# Altium integrated library Linear Technology Power Management System Supervisor, Monitor and Control.IntLib: 1611 symbols (part 96 of 100)
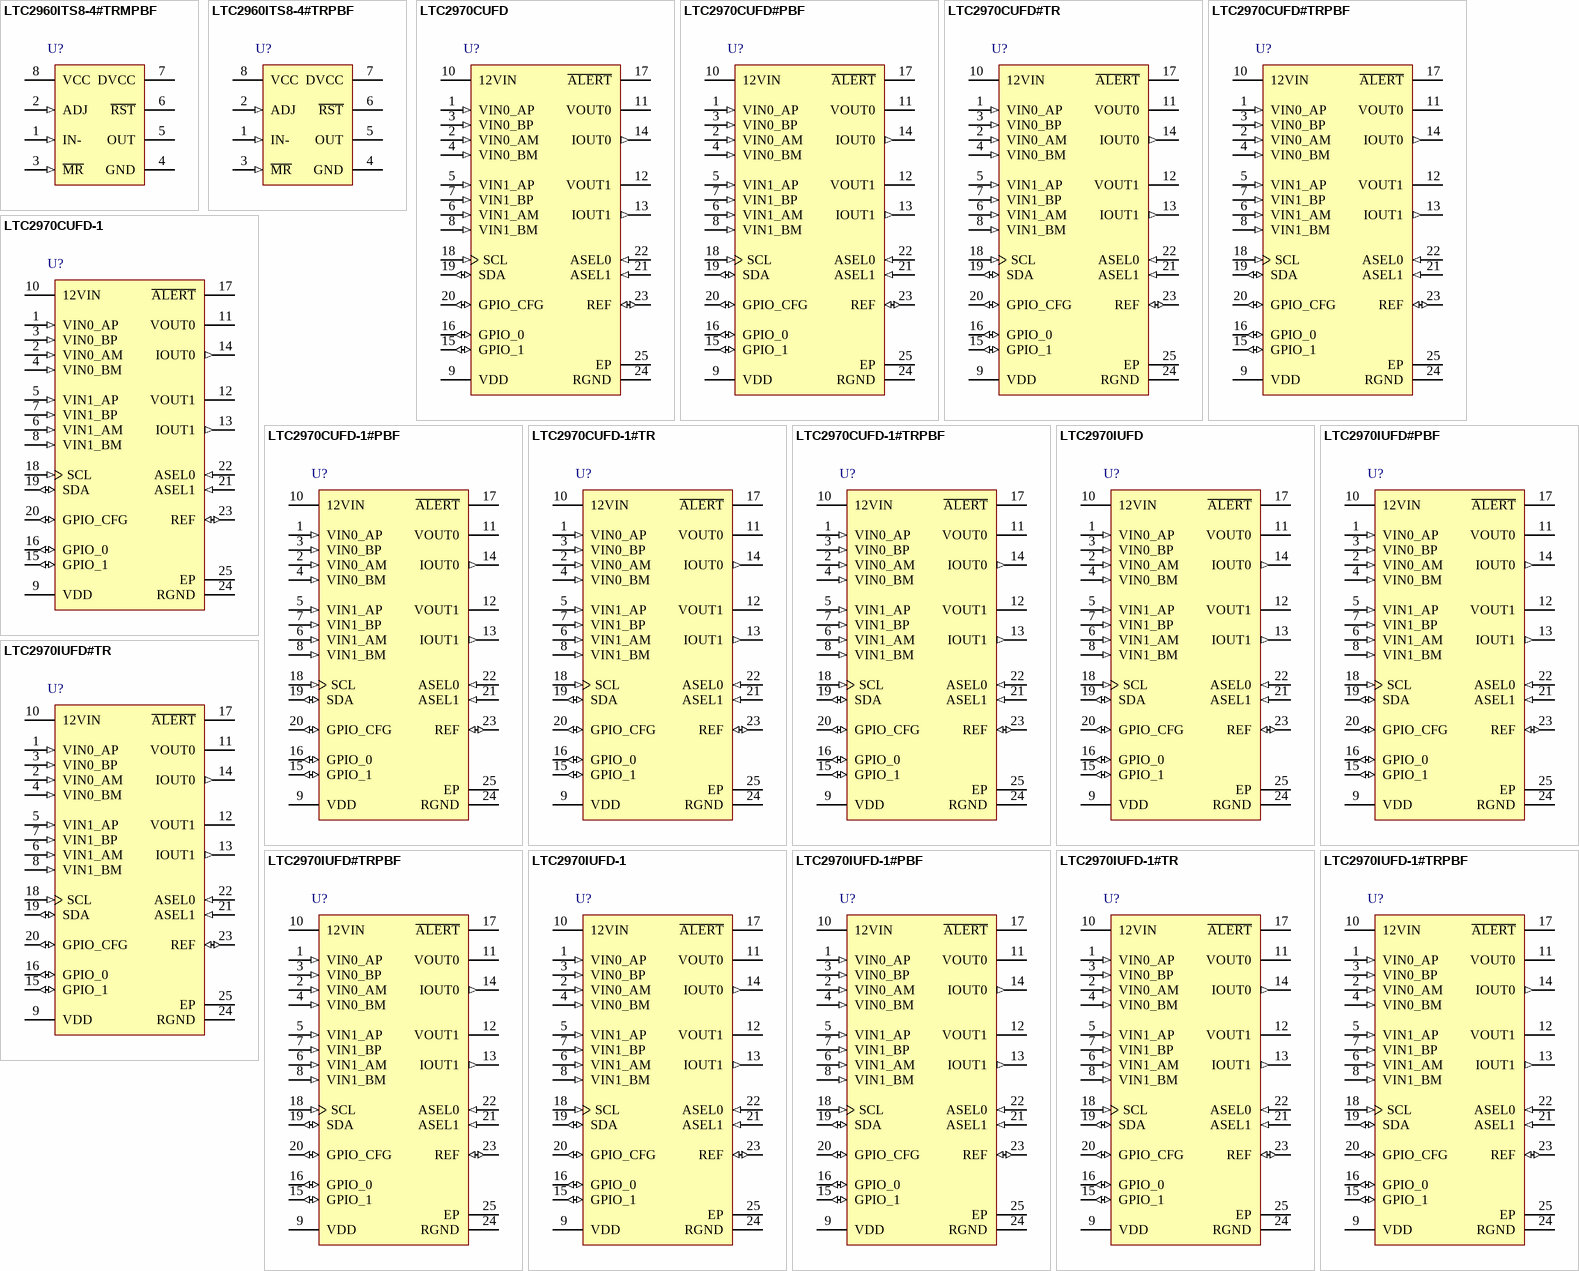
[diagram p140: symbols LTC2960ITS8-4#TRMPBF to LTC2970IUFD-1#TRPBF]

## LTC2970IUFD
designator U?
Dual I2C Power Supply Monitor and Margining Controller, 24-pin QFN (UFD-24), -40 to 85 degC; Manufacturer: Linear Technology; PartNumber: LTC2970IUFD; Number of Supplies(#): 2; DatasheetVersion: Rev. C; PackageVersion: Rev. A, 06/2010; PackageReference: UFD-24; PackageDescription: 24-Pin Plastic QFN, Body 5 x 4 mm, Pitch 0.5 mm; RoHS: FALSE; Mounting Technology: Surface Mount; Code_JEDEC: MO-220; ComponentLink1Description: Manufacturer URL; ComponentLink1URL: http://www.linear.com/; ComponentLink2Description: Datasheet; ComponentLink2URL: http://cds.linear.com/docs/en/datasheet/29701fc.pdf; ComponentLink3Description: Package Specification; ComponentLink3URL: http://cds.linear.com/docs/en/packaging/QFN_24_05-08-1696.pdf
footprint LT-UFD-24_N (QFN, 24-Leads, Body 5.1x4.1mm, Pitch 0.5mm, Thermal Pad 3.65x2.65 mm, IPC Medium Density)
footprint LT-UFD-24_L (QFN, 24-Leads, Body 5.1x4.1mm, Pitch 0.5mm, Thermal Pad 3.65x2.65 mm, IPC High Density)
footprint LT-UFD-24_M (QFN, 24-Leads, Body 5.1x4.1mm, Pitch 0.5mm, Thermal Pad 3.65x2.65 mm, IPC Low Density)
pins: 1 VIN0_AP (in) "Positive CH0_A ADC Multiplexer Input. The output of the differential, 7:1 multiplexer connects to the input of the ADC. CH0_A can be configured to servo IDAC0.", 2 VIN0_AM (in) "Negative CH0_A ADC Multiplexer Input. The output of the differential, 7:1 multiplexer connects to the input of the ADC. CH0_A can be configured to servo IDAC0.", 3 VIN0_BP (in) "Positive CH0_B ADC Multiplexer Input. The output of the differential, 7:1 multiplexer connects to the input of the ADC. CH0_B is a voltage monitor input only.", 4 VIN0_BM (in) "Negative CH0_B ADC Multiplexer Input. The output of the differential, 7:1 multiplexer connects to the input of the ADC. CH0_B is a voltage monitor input only.", 5 VIN1_AP (in) "Positive CH1_A ADC Multiplexer Input. The output of the differential, 7:1 multiplexer connects to the input of the ADC. CH1_A can be configured to servo IDAC1.", 6 VIN1_AM (in) "Negative CH1_A ADC Multiplexer Input. The output of the differential, 7:1 multiplexer connects to the input of the ADC. CH1_A can be configured to servo IDAC1.", 7 VIN1_BP (in) "Positive CH1_B ADC Multiplexer Input. The output of the differential, 7:1 multiplexer connects to the input of the ADC. CH1_B is a voltage monitor input only.", 8 VIN1_BM (in) "Negative CH1_B ADC Multiplexer Input. The output of the differential, 7:1 multiplexer connects to the input of the ADC. CH1_B is a voltage monitor input only.", 9 VDD (power) "VDD Power Supply, Voltage Monitor Input, and Internal 5V Regulator Output. The supply input range is 4.5V to 5.75V. The VDD pin voltage can be connected to the ADC through an internal mux. Bypass the VDD pin to device ground (See Datasheet)", 10 12VIN (power) "12V Power Supply and Voltage Monitor Input. An internal regulator generates 5V from 12VIN. The input range for 12VIN is 8V to 15V. Bypass this pin with a 100nF capacitor. The regulator’s output is connected to the VDD pin(See Datasheet)", 11 VOUT0 (power) "CH0 Voltage Output. Buffered version of IDAC0 output voltage.", 12 VOUT1 (power) "CH1 Voltage Output. Buffered version of IDAC1 output voltage.", 13 IOUT1 (out) "IDAC1 Current Output. Connect a resistor between this pin and the point-of-load ground for channel 1. The IDAC sources between 0 and 255uA.", 14 IOUT0 (out) "IDAC0 Current Output. Connect a resistor between this pin and the point-of-load ground for channel 0. The IDAC sources between 0 and 255uA.", 15 GPIO_1 (io) "General Purpose Input or Open Drain Digital Output. GPIO_1 can be configured as the IDAC Fault or Faults output, a digital input, or an open-drain digital output.", 16 GPIO_0 (io) "General Purpose Input or Open Drain Digital Output. GPIO_0 can be configured as the voltage monitor power-good or power-good bar output, a digital input, or a programmable open-drain output. Power good is the NOR of all (See Datasheet)", 17 ~{ALERT} (oc) "Open Drain Digital Output. Connect the SMBALERT signal to this pin. A\L\E\R\T\ is asserted low when either IDAC0 or IDAC1 rails out (optional), or when one of the monitored voltages ventures outside its UV and OV thresholds (See Datasheet)", 18 SCL (in) "Serial Bus Clock Input.", 19 SDA (io) "Serial Bus Data Input and Output.", 20 GPIO_CFG (io) "GPIO Configuration Digital Input and Open Drain Output. Pulling GPIO_CFG high will cause the GPIO_0 and GPIO_1 open-drain outputs to automatically assert low after a power-on reset. If GPIO_CFG is pulled low, then GPIO_0 and (See Datasheet)", 21 ASEL1 (in) "Slave Address Select Bit 1. Tie this pin to the VDD pin, ground, or float in order to select the address location (see Table 2).", 22 ASEL0 (in) "Slave Address Select Bit 0. Tie this pin to the VDD pin, ground, or float in order to select the address location (see Table 2).", 23 REF (io) "Internal Reference Output or ADC Reference Overdrive Input. The voltage at this pin determines the full-scale input voltage of the delta-sigma ADC (VFULLSCALE = 6.65 • VREF , typically). An internal 3.5k resistor decouple(See Datasheet)", 24 RGND (power) "Reference Ground. Connect to device ground.", 25 EP (power) "Device Ground. Must be soldered to ground."

## LTC2970IUFD#PBF
designator U?
Dual I2C Power Supply Monitor and Margining Controller, 24-pin QFN (UFD-24), -40 to 85 degC, Pb-Free; Manufacturer: Linear Technology; PartNumber: LTC2970IUFD#PBF; Number of Supplies(#): 2; DatasheetVersion: Rev. C; PackageVersion: Rev. A, 06/2010; PackageReference: UFD-24; PackageDescription: 24-Pin Plastic QFN, Body 5 x 4 mm, Pitch 0.5 mm; Supplier 1: Digi-Key; Supplier Part Number 1: LTC2970IUFD#PBF-ND; Supplier 2: Newark; Supplier Part Number 2: 56M7294; RoHS: TRUE; Mounting Technology: Surface Mount; Code_JEDEC: MO-220; ComponentLink1Description: Manufacturer URL; ComponentLink1URL: http://www.linear.com/; ComponentLink2Description: Datasheet; ComponentLink2URL: http://cds.linear.com/docs/en/datasheet/29701fc.pdf; ComponentLink3Description: Package Specification; ComponentLink3URL: http://cds.linear.com/docs/en/packaging/QFN_24_05-08-1696.pdf
footprint LT-UFD-24_N (QFN, 24-Leads, Body 5.1x4.1mm, Pitch 0.5mm, Thermal Pad 3.65x2.65 mm, IPC Medium Density)
footprint LT-UFD-24_L (QFN, 24-Leads, Body 5.1x4.1mm, Pitch 0.5mm, Thermal Pad 3.65x2.65 mm, IPC High Density)
footprint LT-UFD-24_M (QFN, 24-Leads, Body 5.1x4.1mm, Pitch 0.5mm, Thermal Pad 3.65x2.65 mm, IPC Low Density)
pins: 1 VIN0_AP (in) "Positive CH0_A ADC Multiplexer Input. The output of the differential, 7:1 multiplexer connects to the input of the ADC. CH0_A can be configured to servo IDAC0.", 2 VIN0_AM (in) "Negative CH0_A ADC Multiplexer Input. The output of the differential, 7:1 multiplexer connects to the input of the ADC. CH0_A can be configured to servo IDAC0.", 3 VIN0_BP (in) "Positive CH0_B ADC Multiplexer Input. The output of the differential, 7:1 multiplexer connects to the input of the ADC. CH0_B is a voltage monitor input only.", 4 VIN0_BM (in) "Negative CH0_B ADC Multiplexer Input. The output of the differential, 7:1 multiplexer connects to the input of the ADC. CH0_B is a voltage monitor input only.", 5 VIN1_AP (in) "Positive CH1_A ADC Multiplexer Input. The output of the differential, 7:1 multiplexer connects to the input of the ADC. CH1_A can be configured to servo IDAC1.", 6 VIN1_AM (in) "Negative CH1_A ADC Multiplexer Input. The output of the differential, 7:1 multiplexer connects to the input of the ADC. CH1_A can be configured to servo IDAC1.", 7 VIN1_BP (in) "Positive CH1_B ADC Multiplexer Input. The output of the differential, 7:1 multiplexer connects to the input of the ADC. CH1_B is a voltage monitor input only.", 8 VIN1_BM (in) "Negative CH1_B ADC Multiplexer Input. The output of the differential, 7:1 multiplexer connects to the input of the ADC. CH1_B is a voltage monitor input only.", 9 VDD (power) "VDD Power Supply, Voltage Monitor Input, and Internal 5V Regulator Output. The supply input range is 4.5V to 5.75V. The VDD pin voltage can be connected to the ADC through an internal mux. Bypass the VDD pin to device ground (See Datasheet)", 10 12VIN (power) "12V Power Supply and Voltage Monitor Input. An internal regulator generates 5V from 12VIN. The input range for 12VIN is 8V to 15V. Bypass this pin with a 100nF capacitor. The regulator’s output is connected to the VDD pin(See Datasheet)", 11 VOUT0 (power) "CH0 Voltage Output. Buffered version of IDAC0 output voltage.", 12 VOUT1 (power) "CH1 Voltage Output. Buffered version of IDAC1 output voltage.", 13 IOUT1 (out) "IDAC1 Current Output. Connect a resistor between this pin and the point-of-load ground for channel 1. The IDAC sources between 0 and 255uA.", 14 IOUT0 (out) "IDAC0 Current Output. Connect a resistor between this pin and the point-of-load ground for channel 0. The IDAC sources between 0 and 255uA.", 15 GPIO_1 (io) "General Purpose Input or Open Drain Digital Output. GPIO_1 can be configured as the IDAC Fault or Faults output, a digital input, or an open-drain digital output.", 16 GPIO_0 (io) "General Purpose Input or Open Drain Digital Output. GPIO_0 can be configured as the voltage monitor power-good or power-good bar output, a digital input, or a programmable open-drain output. Power good is the NOR of all (See Datasheet)", 17 ~{ALERT} (oc) "Open Drain Digital Output. Connect the SMBALERT signal to this pin. A\L\E\R\T\ is asserted low when either IDAC0 or IDAC1 rails out (optional), or when one of the monitored voltages ventures outside its UV and OV thresholds (See Datasheet)", 18 SCL (in) "Serial Bus Clock Input.", 19 SDA (io) "Serial Bus Data Input and Output.", 20 GPIO_CFG (io) "GPIO Configuration Digital Input and Open Drain Output. Pulling GPIO_CFG high will cause the GPIO_0 and GPIO_1 open-drain outputs to automatically assert low after a power-on reset. If GPIO_CFG is pulled low, then GPIO_0 and (See Datasheet)", 21 ASEL1 (in) "Slave Address Select Bit 1. Tie this pin to the VDD pin, ground, or float in order to select the address location (see Table 2).", 22 ASEL0 (in) "Slave Address Select Bit 0. Tie this pin to the VDD pin, ground, or float in order to select the address location (see Table 2).", 23 REF (io) "Internal Reference Output or ADC Reference Overdrive Input. The voltage at this pin determines the full-scale input voltage of the delta-sigma ADC (VFULLSCALE = 6.65 • VREF , typically). An internal 3.5k resistor decouple(See Datasheet)", 24 RGND (power) "Reference Ground. Connect to device ground.", 25 EP (power) "Device Ground. Must be soldered to ground."

## LTC2970IUFD#TR
designator U?
Dual I2C Power Supply Monitor and Margining Controller, 24-pin QFN (UFD-24), -40 to 85 degC, Tape and Reel; Manufacturer: Linear Technology; PartNumber: LTC2970IUFD#TR; Number of Supplies(#): 2; DatasheetVersion: Rev. C; PackageVersion: Rev. A, 06/2010; PackageReference: UFD-24; PackageDescription: 24-Pin Plastic QFN, Body 5 x 4 mm, Pitch 0.5 mm; Packing: Tape and Reel; RoHS: FALSE; Mounting Technology: Surface Mount; Code_JEDEC: MO-220; ComponentLink1Description: Manufacturer URL; ComponentLink1URL: http://www.linear.com/; ComponentLink2Description: Datasheet; ComponentLink2URL: http://cds.linear.com/docs/en/datasheet/29701fc.pdf; ComponentLink3Description: Package Specification; ComponentLink3URL: http://cds.linear.com/docs/en/packaging/QFN_24_05-08-1696.pdf
footprint LT-UFD-24_N (QFN, 24-Leads, Body 5.1x4.1mm, Pitch 0.5mm, Thermal Pad 3.65x2.65 mm, IPC Medium Density)
footprint LT-UFD-24_L (QFN, 24-Leads, Body 5.1x4.1mm, Pitch 0.5mm, Thermal Pad 3.65x2.65 mm, IPC High Density)
footprint LT-UFD-24_M (QFN, 24-Leads, Body 5.1x4.1mm, Pitch 0.5mm, Thermal Pad 3.65x2.65 mm, IPC Low Density)
pins: 1 VIN0_AP (in) "Positive CH0_A ADC Multiplexer Input. The output of the differential, 7:1 multiplexer connects to the input of the ADC. CH0_A can be configured to servo IDAC0.", 2 VIN0_AM (in) "Negative CH0_A ADC Multiplexer Input. The output of the differential, 7:1 multiplexer connects to the input of the ADC. CH0_A can be configured to servo IDAC0.", 3 VIN0_BP (in) "Positive CH0_B ADC Multiplexer Input. The output of the differential, 7:1 multiplexer connects to the input of the ADC. CH0_B is a voltage monitor input only.", 4 VIN0_BM (in) "Negative CH0_B ADC Multiplexer Input. The output of the differential, 7:1 multiplexer connects to the input of the ADC. CH0_B is a voltage monitor input only.", 5 VIN1_AP (in) "Positive CH1_A ADC Multiplexer Input. The output of the differential, 7:1 multiplexer connects to the input of the ADC. CH1_A can be configured to servo IDAC1.", 6 VIN1_AM (in) "Negative CH1_A ADC Multiplexer Input. The output of the differential, 7:1 multiplexer connects to the input of the ADC. CH1_A can be configured to servo IDAC1.", 7 VIN1_BP (in) "Positive CH1_B ADC Multiplexer Input. The output of the differential, 7:1 multiplexer connects to the input of the ADC. CH1_B is a voltage monitor input only.", 8 VIN1_BM (in) "Negative CH1_B ADC Multiplexer Input. The output of the differential, 7:1 multiplexer connects to the input of the ADC. CH1_B is a voltage monitor input only.", 9 VDD (power) "VDD Power Supply, Voltage Monitor Input, and Internal 5V Regulator Output. The supply input range is 4.5V to 5.75V. The VDD pin voltage can be connected to the ADC through an internal mux. Bypass the VDD pin to device ground (See Datasheet)", 10 12VIN (power) "12V Power Supply and Voltage Monitor Input. An internal regulator generates 5V from 12VIN. The input range for 12VIN is 8V to 15V. Bypass this pin with a 100nF capacitor. The regulator’s output is connected to the VDD pin(See Datasheet)", 11 VOUT0 (power) "CH0 Voltage Output. Buffered version of IDAC0 output voltage.", 12 VOUT1 (power) "CH1 Voltage Output. Buffered version of IDAC1 output voltage.", 13 IOUT1 (out) "IDAC1 Current Output. Connect a resistor between this pin and the point-of-load ground for channel 1. The IDAC sources between 0 and 255uA.", 14 IOUT0 (out) "IDAC0 Current Output. Connect a resistor between this pin and the point-of-load ground for channel 0. The IDAC sources between 0 and 255uA.", 15 GPIO_1 (io) "General Purpose Input or Open Drain Digital Output. GPIO_1 can be configured as the IDAC Fault or Faults output, a digital input, or an open-drain digital output.", 16 GPIO_0 (io) "General Purpose Input or Open Drain Digital Output. GPIO_0 can be configured as the voltage monitor power-good or power-good bar output, a digital input, or a programmable open-drain output. Power good is the NOR of all (See Datasheet)", 17 ~{ALERT} (oc) "Open Drain Digital Output. Connect the SMBALERT signal to this pin. A\L\E\R\T\ is asserted low when either IDAC0 or IDAC1 rails out (optional), or when one of the monitored voltages ventures outside its UV and OV thresholds (See Datasheet)", 18 SCL (in) "Serial Bus Clock Input.", 19 SDA (io) "Serial Bus Data Input and Output.", 20 GPIO_CFG (io) "GPIO Configuration Digital Input and Open Drain Output. Pulling GPIO_CFG high will cause the GPIO_0 and GPIO_1 open-drain outputs to automatically assert low after a power-on reset. If GPIO_CFG is pulled low, then GPIO_0 and (See Datasheet)", 21 ASEL1 (in) "Slave Address Select Bit 1. Tie this pin to the VDD pin, ground, or float in order to select the address location (see Table 2).", 22 ASEL0 (in) "Slave Address Select Bit 0. Tie this pin to the VDD pin, ground, or float in order to select the address location (see Table 2).", 23 REF (io) "Internal Reference Output or ADC Reference Overdrive Input. The voltage at this pin determines the full-scale input voltage of the delta-sigma ADC (VFULLSCALE = 6.65 • VREF , typically). An internal 3.5k resistor decouple(See Datasheet)", 24 RGND (power) "Reference Ground. Connect to device ground.", 25 EP (power) "Device Ground. Must be soldered to ground."

## LTC2970IUFD#TRPBF
designator U?
Dual I2C Power Supply Monitor and Margining Controller, 24-pin QFN (UFD-24), -40 to 85 degC, Pb-Free, Tape and Reel; Manufacturer: Linear Technology; PartNumber: LTC2970IUFD#TRPBF; Number of Supplies(#): 2; DatasheetVersion: Rev. C; PackageVersion: Rev. A, 06/2010; PackageReference: UFD-24; PackageDescription: 24-Pin Plastic QFN, Body 5 x 4 mm, Pitch 0.5 mm; Supplier 1: Digi-Key; Supplier Part Number 1: LTC2970IUFD#TRPBF-ND; Packing: Tape and Reel; RoHS: TRUE; Mounting Technology: Surface Mount; Code_JEDEC: MO-220; ComponentLink1Description: Manufacturer URL; ComponentLink1URL: http://www.linear.com/; ComponentLink2Description: Datasheet; ComponentLink2URL: http://cds.linear.com/docs/en/datasheet/29701fc.pdf; ComponentLink3Description: Package Specification; ComponentLink3URL: http://cds.linear.com/docs/en/packaging/QFN_24_05-08-1696.pdf
footprint LT-UFD-24_N (QFN, 24-Leads, Body 5.1x4.1mm, Pitch 0.5mm, Thermal Pad 3.65x2.65 mm, IPC Medium Density)
footprint LT-UFD-24_L (QFN, 24-Leads, Body 5.1x4.1mm, Pitch 0.5mm, Thermal Pad 3.65x2.65 mm, IPC High Density)
footprint LT-UFD-24_M (QFN, 24-Leads, Body 5.1x4.1mm, Pitch 0.5mm, Thermal Pad 3.65x2.65 mm, IPC Low Density)
pins: 1 VIN0_AP (in) "Positive CH0_A ADC Multiplexer Input. The output of the differential, 7:1 multiplexer connects to the input of the ADC. CH0_A can be configured to servo IDAC0.", 2 VIN0_AM (in) "Negative CH0_A ADC Multiplexer Input. The output of the differential, 7:1 multiplexer connects to the input of the ADC. CH0_A can be configured to servo IDAC0.", 3 VIN0_BP (in) "Positive CH0_B ADC Multiplexer Input. The output of the differential, 7:1 multiplexer connects to the input of the ADC. CH0_B is a voltage monitor input only.", 4 VIN0_BM (in) "Negative CH0_B ADC Multiplexer Input. The output of the differential, 7:1 multiplexer connects to the input of the ADC. CH0_B is a voltage monitor input only.", 5 VIN1_AP (in) "Positive CH1_A ADC Multiplexer Input. The output of the differential, 7:1 multiplexer connects to the input of the ADC. CH1_A can be configured to servo IDAC1.", 6 VIN1_AM (in) "Negative CH1_A ADC Multiplexer Input. The output of the differential, 7:1 multiplexer connects to the input of the ADC. CH1_A can be configured to servo IDAC1.", 7 VIN1_BP (in) "Positive CH1_B ADC Multiplexer Input. The output of the differential, 7:1 multiplexer connects to the input of the ADC. CH1_B is a voltage monitor input only.", 8 VIN1_BM (in) "Negative CH1_B ADC Multiplexer Input. The output of the differential, 7:1 multiplexer connects to the input of the ADC. CH1_B is a voltage monitor input only.", 9 VDD (power) "VDD Power Supply, Voltage Monitor Input, and Internal 5V Regulator Output. The supply input range is 4.5V to 5.75V. The VDD pin voltage can be connected to the ADC through an internal mux. Bypass the VDD pin to device ground (See Datasheet)", 10 12VIN (power) "12V Power Supply and Voltage Monitor Input. An internal regulator generates 5V from 12VIN. The input range for 12VIN is 8V to 15V. Bypass this pin with a 100nF capacitor. The regulator’s output is connected to the VDD pin(See Datasheet)", 11 VOUT0 (power) "CH0 Voltage Output. Buffered version of IDAC0 output voltage.", 12 VOUT1 (power) "CH1 Voltage Output. Buffered version of IDAC1 output voltage.", 13 IOUT1 (out) "IDAC1 Current Output. Connect a resistor between this pin and the point-of-load ground for channel 1. The IDAC sources between 0 and 255uA.", 14 IOUT0 (out) "IDAC0 Current Output. Connect a resistor between this pin and the point-of-load ground for channel 0. The IDAC sources between 0 and 255uA.", 15 GPIO_1 (io) "General Purpose Input or Open Drain Digital Output. GPIO_1 can be configured as the IDAC Fault or Faults output, a digital input, or an open-drain digital output.", 16 GPIO_0 (io) "General Purpose Input or Open Drain Digital Output. GPIO_0 can be configured as the voltage monitor power-good or power-good bar output, a digital input, or a programmable open-drain output. Power good is the NOR of all (See Datasheet)", 17 ~{ALERT} (oc) "Open Drain Digital Output. Connect the SMBALERT signal to this pin. A\L\E\R\T\ is asserted low when either IDAC0 or IDAC1 rails out (optional), or when one of the monitored voltages ventures outside its UV and OV thresholds (See Datasheet)", 18 SCL (in) "Serial Bus Clock Input.", 19 SDA (io) "Serial Bus Data Input and Output.", 20 GPIO_CFG (io) "GPIO Configuration Digital Input and Open Drain Output. Pulling GPIO_CFG high will cause the GPIO_0 and GPIO_1 open-drain outputs to automatically assert low after a power-on reset. If GPIO_CFG is pulled low, then GPIO_0 and (See Datasheet)", 21 ASEL1 (in) "Slave Address Select Bit 1. Tie this pin to the VDD pin, ground, or float in order to select the address location (see Table 2).", 22 ASEL0 (in) "Slave Address Select Bit 0. Tie this pin to the VDD pin, ground, or float in order to select the address location (see Table 2).", 23 REF (io) "Internal Reference Output or ADC Reference Overdrive Input. The voltage at this pin determines the full-scale input voltage of the delta-sigma ADC (VFULLSCALE = 6.65 • VREF , typically). An internal 3.5k resistor decouple(See Datasheet)", 24 RGND (power) "Reference Ground. Connect to device ground.", 25 EP (power) "Device Ground. Must be soldered to ground."

## LTC2970IUFD-1
designator U?
Dual I2C Power Supply Monitor and Margining Controller, 24-pin QFN (UFD-24), -40 to 85 degC; Manufacturer: Linear Technology; PartNumber: LTC2970IUFD-1; Number of Supplies(#): 2; DatasheetVersion: Rev. C; PackageVersion: Rev. A, 06/2010; PackageReference: UFD-24; PackageDescription: 24-Pin Plastic QFN, Body 5 x 4 mm, Pitch 0.5 mm; RoHS: FALSE; Mounting Technology: Surface Mount; Code_JEDEC: MO-220; ComponentLink1Description: Manufacturer URL; ComponentLink1URL: http://www.linear.com/; ComponentLink2Description: Datasheet; ComponentLink2URL: http://cds.linear.com/docs/en/datasheet/29701fc.pdf; ComponentLink3Description: Package Specification; ComponentLink3URL: http://cds.linear.com/docs/en/packaging/QFN_24_05-08-1696.pdf
footprint LT-UFD-24_N (QFN, 24-Leads, Body 5.1x4.1mm, Pitch 0.5mm, Thermal Pad 3.65x2.65 mm, IPC Medium Density)
footprint LT-UFD-24_L (QFN, 24-Leads, Body 5.1x4.1mm, Pitch 0.5mm, Thermal Pad 3.65x2.65 mm, IPC High Density)
footprint LT-UFD-24_M (QFN, 24-Leads, Body 5.1x4.1mm, Pitch 0.5mm, Thermal Pad 3.65x2.65 mm, IPC Low Density)
pins: 1 VIN0_AP (in) "Positive CH0_A ADC Multiplexer Input. The output of the differential, 7:1 multiplexer connects to the input of the ADC. CH0_A can be configured to servo IDAC0.", 2 VIN0_AM (in) "Negative CH0_A ADC Multiplexer Input. The output of the differential, 7:1 multiplexer connects to the input of the ADC. CH0_A can be configured to servo IDAC0.", 3 VIN0_BP (in) "Positive CH0_B ADC Multiplexer Input. The output of the differential, 7:1 multiplexer connects to the input of the ADC. CH0_B is a voltage monitor input only.", 4 VIN0_BM (in) "Negative CH0_B ADC Multiplexer Input. The output of the differential, 7:1 multiplexer connects to the input of the ADC. CH0_B is a voltage monitor input only.", 5 VIN1_AP (in) "Positive CH1_A ADC Multiplexer Input. The output of the differential, 7:1 multiplexer connects to the input of the ADC. CH1_A can be configured to servo IDAC1.", 6 VIN1_AM (in) "Negative CH1_A ADC Multiplexer Input. The output of the differential, 7:1 multiplexer connects to the input of the ADC. CH1_A can be configured to servo IDAC1.", 7 VIN1_BP (in) "Positive CH1_B ADC Multiplexer Input. The output of the differential, 7:1 multiplexer connects to the input of the ADC. CH1_B is a voltage monitor input only.", 8 VIN1_BM (in) "Negative CH1_B ADC Multiplexer Input. The output of the differential, 7:1 multiplexer connects to the input of the ADC. CH1_B is a voltage monitor input only.", 9 VDD (power) "VDD Power Supply, Voltage Monitor Input, and Internal 5V Regulator Output. The supply input range is 4.5V to 5.75V. The VDD pin voltage can be connected to the ADC through an internal mux. Bypass the VDD pin to device ground (See Datasheet)", 10 12VIN (power) "12V Power Supply and Voltage Monitor Input. An internal regulator generates 5V from 12VIN. The input range for 12VIN is 8V to 15V. Bypass this pin with a 100nF capacitor. The regulator’s output is connected to the VDD pin(See Datasheet)", 11 VOUT0 (power) "CH0 Voltage Output. Buffered version of IDAC0 output voltage.", 12 VOUT1 (power) "CH1 Voltage Output. Buffered version of IDAC1 output voltage.", 13 IOUT1 (out) "IDAC1 Current Output. Connect a resistor between this pin and the point-of-load ground for channel 1. The IDAC sources between 0 and 255uA.", 14 IOUT0 (out) "IDAC0 Current Output. Connect a resistor between this pin and the point-of-load ground for channel 0. The IDAC sources between 0 and 255uA.", 15 GPIO_1 (io) "General Purpose Input or Open Drain Digital Output. GPIO_1 can be configured as the IDAC Fault or Faults output, a digital input, or an open-drain digital output.", 16 GPIO_0 (io) "General Purpose Input or Open Drain Digital Output. GPIO_0 can be configured as the voltage monitor power-good or power-good bar output, a digital input, or a programmable open-drain output. Power good is the NOR of all (See Datasheet)", 17 ~{ALERT} (oc) "Open Drain Digital Output. Connect the SMBALERT signal to this pin. A\L\E\R\T\ is asserted low when either IDAC0 or IDAC1 rails out (optional), or when one of the monitored voltages ventures outside its UV and OV thresholds (See Datasheet)", 18 SCL (in) "Serial Bus Clock Input.", 19 SDA (io) "Serial Bus Data Input and Output.", 20 GPIO_CFG (io) "GPIO Configuration Digital Input and Open Drain Output. Pulling GPIO_CFG high will cause the GPIO_0 and GPIO_1 open-drain outputs to automatically assert low after a power-on reset. If GPIO_CFG is pulled low, then GPIO_0 and (See Datasheet)", 21 ASEL1 (in) "Slave Address Select Bit 1. Tie this pin to the VDD pin, ground, or float in order to select the address location (see Table 2).", 22 ASEL0 (in) "Slave Address Select Bit 0. Tie this pin to the VDD pin, ground, or float in order to select the address location (see Table 2).", 23 REF (io) "Internal Reference Output or ADC Reference Overdrive Input. The voltage at this pin determines the full-scale input voltage of the delta-sigma ADC (VFULLSCALE = 6.65 • VREF , typically). An internal 3.5k resistor decouple(See Datasheet)", 24 RGND (power) "Reference Ground. Connect to device ground.", 25 EP (power) "Device Ground. Must be soldered to ground."

## LTC2970IUFD-1#PBF
designator U?
Dual I2C Power Supply Monitor and Margining Controller, 24-pin QFN (UFD-24), -40 to 85 degC, Pb-Free; Manufacturer: Linear Technology; PartNumber: LTC2970IUFD-1#PBF; Number of Supplies(#): 2; DatasheetVersion: Rev. C; PackageVersion: Rev. A, 06/2010; PackageReference: UFD-24; PackageDescription: 24-Pin Plastic QFN, Body 5 x 4 mm, Pitch 0.5 mm; Supplier 1: Digi-Key; Supplier Part Number 1: LTC2970IUFD-1#PBF-ND; RoHS: TRUE; Mounting Technology: Surface Mount; Code_JEDEC: MO-220; ComponentLink1Description: Manufacturer URL; ComponentLink1URL: http://www.linear.com/; ComponentLink2Description: Datasheet; ComponentLink2URL: http://cds.linear.com/docs/en/datasheet/29701fc.pdf; ComponentLink3Description: Package Specification; ComponentLink3URL: http://cds.linear.com/docs/en/packaging/QFN_24_05-08-1696.pdf
footprint LT-UFD-24_N (QFN, 24-Leads, Body 5.1x4.1mm, Pitch 0.5mm, Thermal Pad 3.65x2.65 mm, IPC Medium Density)
footprint LT-UFD-24_L (QFN, 24-Leads, Body 5.1x4.1mm, Pitch 0.5mm, Thermal Pad 3.65x2.65 mm, IPC High Density)
footprint LT-UFD-24_M (QFN, 24-Leads, Body 5.1x4.1mm, Pitch 0.5mm, Thermal Pad 3.65x2.65 mm, IPC Low Density)
pins: 1 VIN0_AP (in) "Positive CH0_A ADC Multiplexer Input. The output of the differential, 7:1 multiplexer connects to the input of the ADC. CH0_A can be configured to servo IDAC0.", 2 VIN0_AM (in) "Negative CH0_A ADC Multiplexer Input. The output of the differential, 7:1 multiplexer connects to the input of the ADC. CH0_A can be configured to servo IDAC0.", 3 VIN0_BP (in) "Positive CH0_B ADC Multiplexer Input. The output of the differential, 7:1 multiplexer connects to the input of the ADC. CH0_B is a voltage monitor input only.", 4 VIN0_BM (in) "Negative CH0_B ADC Multiplexer Input. The output of the differential, 7:1 multiplexer connects to the input of the ADC. CH0_B is a voltage monitor input only.", 5 VIN1_AP (in) "Positive CH1_A ADC Multiplexer Input. The output of the differential, 7:1 multiplexer connects to the input of the ADC. CH1_A can be configured to servo IDAC1.", 6 VIN1_AM (in) "Negative CH1_A ADC Multiplexer Input. The output of the differential, 7:1 multiplexer connects to the input of the ADC. CH1_A can be configured to servo IDAC1.", 7 VIN1_BP (in) "Positive CH1_B ADC Multiplexer Input. The output of the differential, 7:1 multiplexer connects to the input of the ADC. CH1_B is a voltage monitor input only.", 8 VIN1_BM (in) "Negative CH1_B ADC Multiplexer Input. The output of the differential, 7:1 multiplexer connects to the input of the ADC. CH1_B is a voltage monitor input only.", 9 VDD (power) "VDD Power Supply, Voltage Monitor Input, and Internal 5V Regulator Output. The supply input range is 4.5V to 5.75V. The VDD pin voltage can be connected to the ADC through an internal mux. Bypass the VDD pin to device ground (See Datasheet)", 10 12VIN (power) "12V Power Supply and Voltage Monitor Input. An internal regulator generates 5V from 12VIN. The input range for 12VIN is 8V to 15V. Bypass this pin with a 100nF capacitor. The regulator’s output is connected to the VDD pin(See Datasheet)", 11 VOUT0 (power) "CH0 Voltage Output. Buffered version of IDAC0 output voltage.", 12 VOUT1 (power) "CH1 Voltage Output. Buffered version of IDAC1 output voltage.", 13 IOUT1 (out) "IDAC1 Current Output. Connect a resistor between this pin and the point-of-load ground for channel 1. The IDAC sources between 0 and 255uA.", 14 IOUT0 (out) "IDAC0 Current Output. Connect a resistor between this pin and the point-of-load ground for channel 0. The IDAC sources between 0 and 255uA.", 15 GPIO_1 (io) "General Purpose Input or Open Drain Digital Output. GPIO_1 can be configured as the IDAC Fault or Faults output, a digital input, or an open-drain digital output.", 16 GPIO_0 (io) "General Purpose Input or Open Drain Digital Output. GPIO_0 can be configured as the voltage monitor power-good or power-good bar output, a digital input, or a programmable open-drain output. Power good is the NOR of all (See Datasheet)", 17 ~{ALERT} (oc) "Open Drain Digital Output. Connect the SMBALERT signal to this pin. A\L\E\R\T\ is asserted low when either IDAC0 or IDAC1 rails out (optional), or when one of the monitored voltages ventures outside its UV and OV thresholds (See Datasheet)", 18 SCL (in) "Serial Bus Clock Input.", 19 SDA (io) "Serial Bus Data Input and Output.", 20 GPIO_CFG (io) "GPIO Configuration Digital Input and Open Drain Output. Pulling GPIO_CFG high will cause the GPIO_0 and GPIO_1 open-drain outputs to automatically assert low after a power-on reset. If GPIO_CFG is pulled low, then GPIO_0 and (See Datasheet)", 21 ASEL1 (in) "Slave Address Select Bit 1. Tie this pin to the VDD pin, ground, or float in order to select the address location (see Table 2).", 22 ASEL0 (in) "Slave Address Select Bit 0. Tie this pin to the VDD pin, ground, or float in order to select the address location (see Table 2).", 23 REF (io) "Internal Reference Output or ADC Reference Overdrive Input. The voltage at this pin determines the full-scale input voltage of the delta-sigma ADC (VFULLSCALE = 6.65 • VREF , typically). An internal 3.5k resistor decouple(See Datasheet)", 24 RGND (power) "Reference Ground. Connect to device ground.", 25 EP (power) "Device Ground. Must be soldered to ground."

## LTC2970IUFD-1#TR
designator U?
Dual I2C Power Supply Monitor and Margining Controller, 24-pin QFN (UFD-24), -40 to 85 degC, Tape and Reel; Manufacturer: Linear Technology; PartNumber: LTC2970IUFD-1#TR; Number of Supplies(#): 2; DatasheetVersion: Rev. C; PackageVersion: Rev. A, 06/2010; PackageReference: UFD-24; PackageDescription: 24-Pin Plastic QFN, Body 5 x 4 mm, Pitch 0.5 mm; Packing: Tape and Reel; RoHS: FALSE; Mounting Technology: Surface Mount; Code_JEDEC: MO-220; ComponentLink1Description: Manufacturer URL; ComponentLink1URL: http://www.linear.com/; ComponentLink2Description: Datasheet; ComponentLink2URL: http://cds.linear.com/docs/en/datasheet/29701fc.pdf; ComponentLink3Description: Package Specification; ComponentLink3URL: http://cds.linear.com/docs/en/packaging/QFN_24_05-08-1696.pdf
footprint LT-UFD-24_N (QFN, 24-Leads, Body 5.1x4.1mm, Pitch 0.5mm, Thermal Pad 3.65x2.65 mm, IPC Medium Density)
footprint LT-UFD-24_L (QFN, 24-Leads, Body 5.1x4.1mm, Pitch 0.5mm, Thermal Pad 3.65x2.65 mm, IPC High Density)
footprint LT-UFD-24_M (QFN, 24-Leads, Body 5.1x4.1mm, Pitch 0.5mm, Thermal Pad 3.65x2.65 mm, IPC Low Density)
pins: 1 VIN0_AP (in) "Positive CH0_A ADC Multiplexer Input. The output of the differential, 7:1 multiplexer connects to the input of the ADC. CH0_A can be configured to servo IDAC0.", 2 VIN0_AM (in) "Negative CH0_A ADC Multiplexer Input. The output of the differential, 7:1 multiplexer connects to the input of the ADC. CH0_A can be configured to servo IDAC0.", 3 VIN0_BP (in) "Positive CH0_B ADC Multiplexer Input. The output of the differential, 7:1 multiplexer connects to the input of the ADC. CH0_B is a voltage monitor input only.", 4 VIN0_BM (in) "Negative CH0_B ADC Multiplexer Input. The output of the differential, 7:1 multiplexer connects to the input of the ADC. CH0_B is a voltage monitor input only.", 5 VIN1_AP (in) "Positive CH1_A ADC Multiplexer Input. The output of the differential, 7:1 multiplexer connects to the input of the ADC. CH1_A can be configured to servo IDAC1.", 6 VIN1_AM (in) "Negative CH1_A ADC Multiplexer Input. The output of the differential, 7:1 multiplexer connects to the input of the ADC. CH1_A can be configured to servo IDAC1.", 7 VIN1_BP (in) "Positive CH1_B ADC Multiplexer Input. The output of the differential, 7:1 multiplexer connects to the input of the ADC. CH1_B is a voltage monitor input only.", 8 VIN1_BM (in) "Negative CH1_B ADC Multiplexer Input. The output of the differential, 7:1 multiplexer connects to the input of the ADC. CH1_B is a voltage monitor input only.", 9 VDD (power) "VDD Power Supply, Voltage Monitor Input, and Internal 5V Regulator Output. The supply input range is 4.5V to 5.75V. The VDD pin voltage can be connected to the ADC through an internal mux. Bypass the VDD pin to device ground (See Datasheet)", 10 12VIN (power) "12V Power Supply and Voltage Monitor Input. An internal regulator generates 5V from 12VIN. The input range for 12VIN is 8V to 15V. Bypass this pin with a 100nF capacitor. The regulator’s output is connected to the VDD pin(See Datasheet)", 11 VOUT0 (power) "CH0 Voltage Output. Buffered version of IDAC0 output voltage.", 12 VOUT1 (power) "CH1 Voltage Output. Buffered version of IDAC1 output voltage.", 13 IOUT1 (out) "IDAC1 Current Output. Connect a resistor between this pin and the point-of-load ground for channel 1. The IDAC sources between 0 and 255uA.", 14 IOUT0 (out) "IDAC0 Current Output. Connect a resistor between this pin and the point-of-load ground for channel 0. The IDAC sources between 0 and 255uA.", 15 GPIO_1 (io) "General Purpose Input or Open Drain Digital Output. GPIO_1 can be configured as the IDAC Fault or Faults output, a digital input, or an open-drain digital output.", 16 GPIO_0 (io) "General Purpose Input or Open Drain Digital Output. GPIO_0 can be configured as the voltage monitor power-good or power-good bar output, a digital input, or a programmable open-drain output. Power good is the NOR of all (See Datasheet)", 17 ~{ALERT} (oc) "Open Drain Digital Output. Connect the SMBALERT signal to this pin. A\L\E\R\T\ is asserted low when either IDAC0 or IDAC1 rails out (optional), or when one of the monitored voltages ventures outside its UV and OV thresholds (See Datasheet)", 18 SCL (in) "Serial Bus Clock Input.", 19 SDA (io) "Serial Bus Data Input and Output.", 20 GPIO_CFG (io) "GPIO Configuration Digital Input and Open Drain Output. Pulling GPIO_CFG high will cause the GPIO_0 and GPIO_1 open-drain outputs to automatically assert low after a power-on reset. If GPIO_CFG is pulled low, then GPIO_0 and (See Datasheet)", 21 ASEL1 (in) "Slave Address Select Bit 1. Tie this pin to the VDD pin, ground, or float in order to select the address location (see Table 2).", 22 ASEL0 (in) "Slave Address Select Bit 0. Tie this pin to the VDD pin, ground, or float in order to select the address location (see Table 2).", 23 REF (io) "Internal Reference Output or ADC Reference Overdrive Input. The voltage at this pin determines the full-scale input voltage of the delta-sigma ADC (VFULLSCALE = 6.65 • VREF , typically). An internal 3.5k resistor decouple(See Datasheet)", 24 RGND (power) "Reference Ground. Connect to device ground.", 25 EP (power) "Device Ground. Must be soldered to ground."

## LTC2970IUFD-1#TRPBF
designator U?
Dual I2C Power Supply Monitor and Margining Controller, 24-pin QFN (UFD-24), -40 to 85 degC, Pb-Free, Tape and Reel; Manufacturer: Linear Technology; PartNumber: LTC2970IUFD-1#TRPBF; Number of Supplies(#): 2; DatasheetVersion: Rev. C; PackageVersion: Rev. A, 06/2010; PackageReference: UFD-24; PackageDescription: 24-Pin Plastic QFN, Body 5 x 4 mm, Pitch 0.5 mm; Supplier 1: Digi-Key; Supplier Part Number 1: LTC2970IUFD-1#TRPBF-ND; Packing: Tape and Reel; RoHS: TRUE; Mounting Technology: Surface Mount; Code_JEDEC: MO-220; ComponentLink1Description: Manufacturer URL; ComponentLink1URL: http://www.linear.com/; ComponentLink2Description: Datasheet; ComponentLink2URL: http://cds.linear.com/docs/en/datasheet/29701fc.pdf; ComponentLink3Description: Package Specification; ComponentLink3URL: http://cds.linear.com/docs/en/packaging/QFN_24_05-08-1696.pdf
footprint LT-UFD-24_N (QFN, 24-Leads, Body 5.1x4.1mm, Pitch 0.5mm, Thermal Pad 3.65x2.65 mm, IPC Medium Density)
footprint LT-UFD-24_L (QFN, 24-Leads, Body 5.1x4.1mm, Pitch 0.5mm, Thermal Pad 3.65x2.65 mm, IPC High Density)
footprint LT-UFD-24_M (QFN, 24-Leads, Body 5.1x4.1mm, Pitch 0.5mm, Thermal Pad 3.65x2.65 mm, IPC Low Density)
pins: 1 VIN0_AP (in) "Positive CH0_A ADC Multiplexer Input. The output of the differential, 7:1 multiplexer connects to the input of the ADC. CH0_A can be configured to servo IDAC0.", 2 VIN0_AM (in) "Negative CH0_A ADC Multiplexer Input. The output of the differential, 7:1 multiplexer connects to the input of the ADC. CH0_A can be configured to servo IDAC0.", 3 VIN0_BP (in) "Positive CH0_B ADC Multiplexer Input. The output of the differential, 7:1 multiplexer connects to the input of the ADC. CH0_B is a voltage monitor input only.", 4 VIN0_BM (in) "Negative CH0_B ADC Multiplexer Input. The output of the differential, 7:1 multiplexer connects to the input of the ADC. CH0_B is a voltage monitor input only.", 5 VIN1_AP (in) "Positive CH1_A ADC Multiplexer Input. The output of the differential, 7:1 multiplexer connects to the input of the ADC. CH1_A can be configured to servo IDAC1.", 6 VIN1_AM (in) "Negative CH1_A ADC Multiplexer Input. The output of the differential, 7:1 multiplexer connects to the input of the ADC. CH1_A can be configured to servo IDAC1.", 7 VIN1_BP (in) "Positive CH1_B ADC Multiplexer Input. The output of the differential, 7:1 multiplexer connects to the input of the ADC. CH1_B is a voltage monitor input only.", 8 VIN1_BM (in) "Negative CH1_B ADC Multiplexer Input. The output of the differential, 7:1 multiplexer connects to the input of the ADC. CH1_B is a voltage monitor input only.", 9 VDD (power) "VDD Power Supply, Voltage Monitor Input, and Internal 5V Regulator Output. The supply input range is 4.5V to 5.75V. The VDD pin voltage can be connected to the ADC through an internal mux. Bypass the VDD pin to device ground (See Datasheet)", 10 12VIN (power) "12V Power Supply and Voltage Monitor Input. An internal regulator generates 5V from 12VIN. The input range for 12VIN is 8V to 15V. Bypass this pin with a 100nF capacitor. The regulator’s output is connected to the VDD pin(See Datasheet)", 11 VOUT0 (power) "CH0 Voltage Output. Buffered version of IDAC0 output voltage.", 12 VOUT1 (power) "CH1 Voltage Output. Buffered version of IDAC1 output voltage.", 13 IOUT1 (out) "IDAC1 Current Output. Connect a resistor between this pin and the point-of-load ground for channel 1. The IDAC sources between 0 and 255uA.", 14 IOUT0 (out) "IDAC0 Current Output. Connect a resistor between this pin and the point-of-load ground for channel 0. The IDAC sources between 0 and 255uA.", 15 GPIO_1 (io) "General Purpose Input or Open Drain Digital Output. GPIO_1 can be configured as the IDAC Fault or Faults output, a digital input, or an open-drain digital output.", 16 GPIO_0 (io) "General Purpose Input or Open Drain Digital Output. GPIO_0 can be configured as the voltage monitor power-good or power-good bar output, a digital input, or a programmable open-drain output. Power good is the NOR of all (See Datasheet)", 17 ~{ALERT} (oc) "Open Drain Digital Output. Connect the SMBALERT signal to this pin. A\L\E\R\T\ is asserted low when either IDAC0 or IDAC1 rails out (optional), or when one of the monitored voltages ventures outside its UV and OV thresholds (See Datasheet)", 18 SCL (in) "Serial Bus Clock Input.", 19 SDA (io) "Serial Bus Data Input and Output.", 20 GPIO_CFG (io) "GPIO Configuration Digital Input and Open Drain Output. Pulling GPIO_CFG high will cause the GPIO_0 and GPIO_1 open-drain outputs to automatically assert low after a power-on reset. If GPIO_CFG is pulled low, then GPIO_0 and (See Datasheet)", 21 ASEL1 (in) "Slave Address Select Bit 1. Tie this pin to the VDD pin, ground, or float in order to select the address location (see Table 2).", 22 ASEL0 (in) "Slave Address Select Bit 0. Tie this pin to the VDD pin, ground, or float in order to select the address location (see Table 2).", 23 REF (io) "Internal Reference Output or ADC Reference Overdrive Input. The voltage at this pin determines the full-scale input voltage of the delta-sigma ADC (VFULLSCALE = 6.65 • VREF , typically). An internal 3.5k resistor decouple(See Datasheet)", 24 RGND (power) "Reference Ground. Connect to device ground.", 25 EP (power) "Device Ground. Must be soldered to ground."

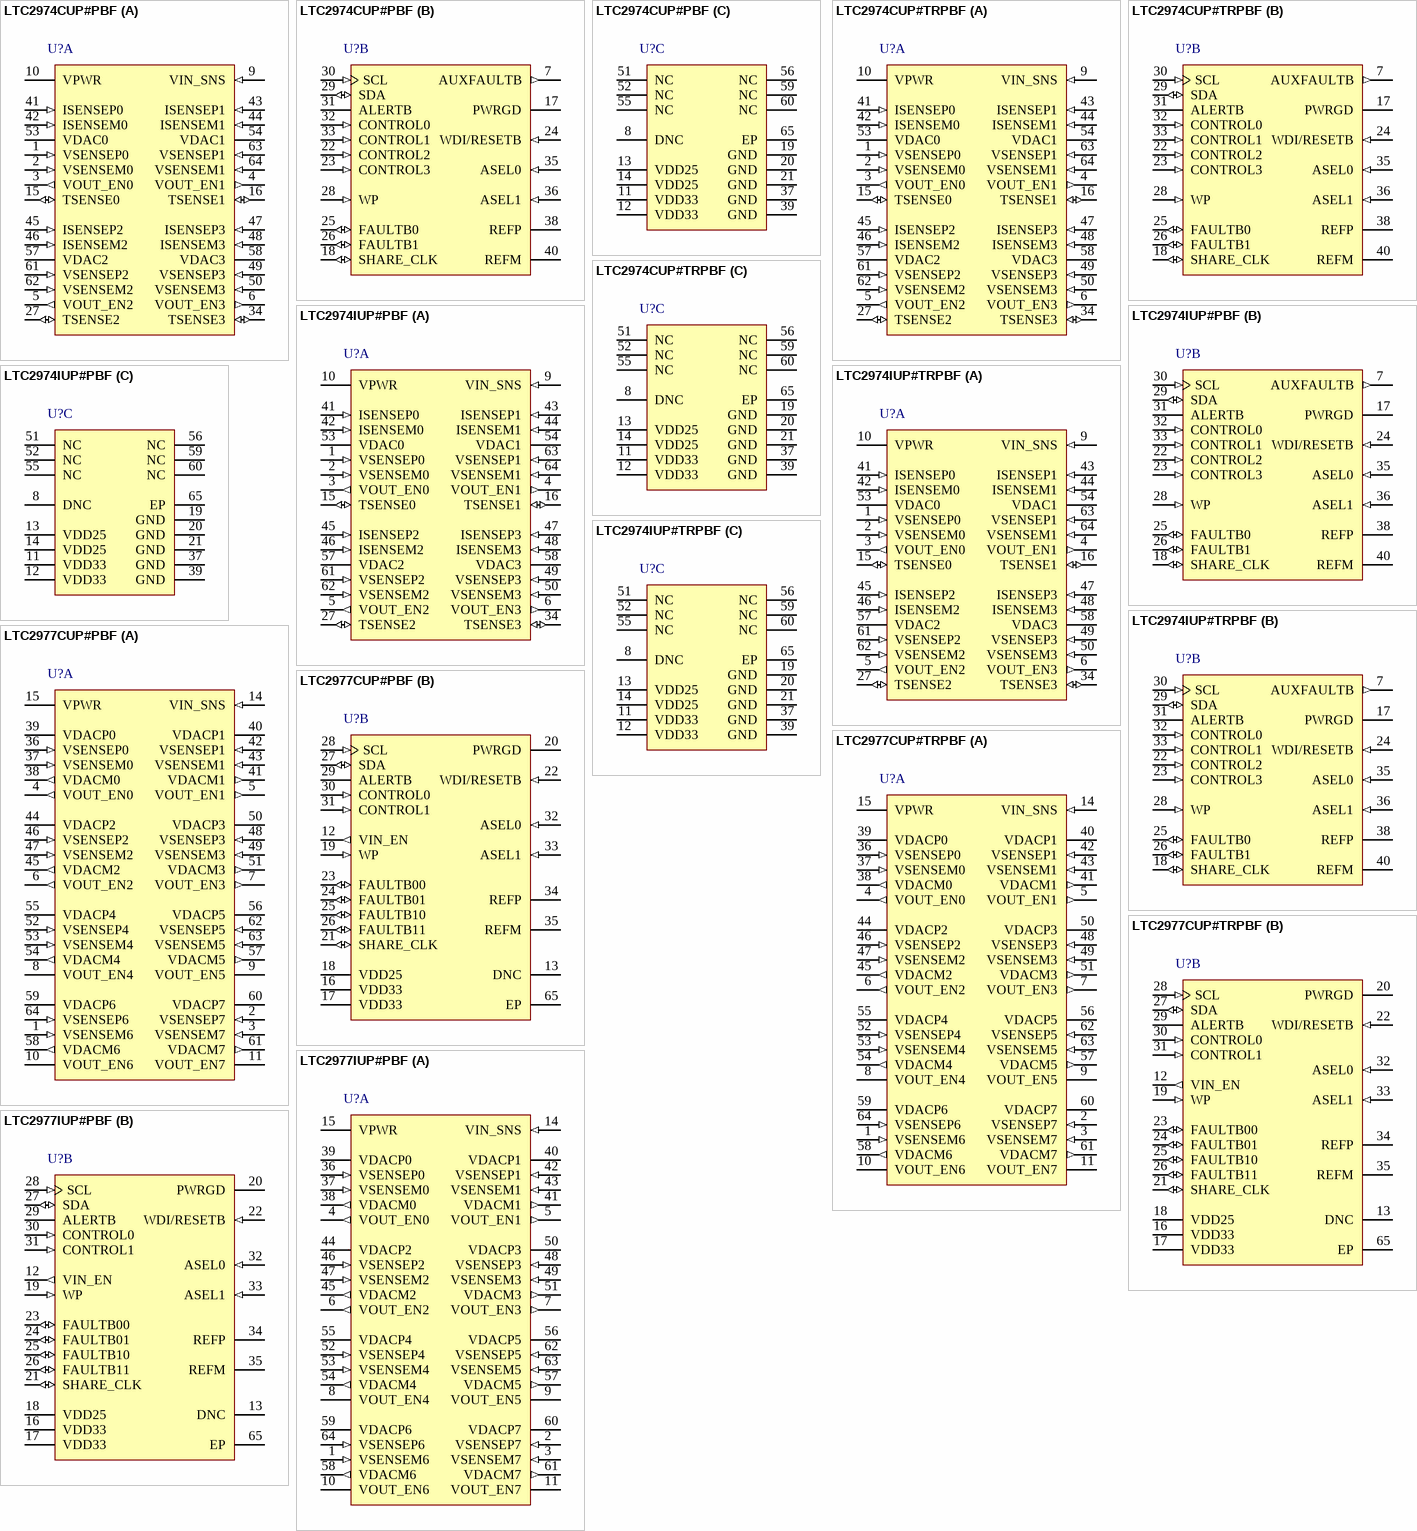
[diagram p43: symbols LTC2974CUP#PBF to LTC2977IUP#PBF]

## LTC2974CUP#PBF
designator U?
Quad Digital Power Supply Manager with EEPROM, 64-pin QFN (UP-64), 0 to 70 degC, Pb-Free; Manufacturer: Linear Technology; PartNumber: LTC2974CUP#PBF; Number of Supplies(#): 4; DatasheetVersion: Rev. A; PackageVersion: Rev. C, 06/2010; PackageReference: UP-64; PackageDescription: 64-Pin Plastic QFN, Body 9 x 9 mm, Pitch 0.5 mm; Supplier 1: Digi-Key; Supplier Part Number 1: LTC2974CUP#PBF-ND; Supplier 2: Newark; Supplier Part Number 2: 82T3895; RoHS: TRUE; Mounting Technology: Surface Mount; Code_JEDEC: MO-220; ComponentLink1Description: Manufacturer URL; ComponentLink1URL: http://www.linear.com/; ComponentLink2Description: Datasheet; ComponentLink2URL: http://cds.linear.com/docs/en/datasheet/2974fa.pdf; ComponentLink3Description: Package Specification; ComponentLink3URL: http://cds.linear.com/docs/en/packaging/QFN_64_05-08-1705.pdf
footprint LT-UP-64_N (QFN, 64-Leads, Body 9.1x9.1mm, Pitch 0.5mm, Thermal Pad 7.15x7.15mm, IPC Medium Density)
footprint LT-UP-64_L (QFN, 64-Leads, Body 9.1x9.1mm, Pitch 0.5mm, Thermal Pad 7.15x7.15mm, IPC High Density)
footprint LT-UP-64_M (QFN, 64-Leads, Body 9.1x9.1mm, Pitch 0.5mm, Thermal Pad 7.15x7.15mm, IPC Low Density)
part A pins: 1 VSENSEP0 (in) "DC/DC Converter Differential (+) Output Voltage-0 Sensing Pin", 2 VSENSEM0 (in) "DC/DC Converter Differential (-) Output Voltage-0 Sensing Pin", 3 VOUT_EN0 (out) "DC/DC Converter Enable-0 Pin. Output High Voltage Optionally Pulled-Up to 12V by 5uA", 4 VOUT_EN1 (out) "DC/DC Converter Enable-1 Pin. Output High Voltage Optionally Pulled-Up to 12V by 5uA", 5 VOUT_EN2 (out) "DC/DC Converter Enable-2 Pin. Output High Voltage Optionally Pulled-Up to 12V by 5uA", 6 VOUT_EN3 (out) "DC/DC Converter Enable-3 Pin. Output High Voltage Optionally Pulled-Up to 12V by 5uA", 9 VIN_SNS (in) "VIN SENSE Input. This Voltage is Compared Against the VIN On and Off Voltage Thresholds In Order to Determine When to Enable and Disable, Respectively, the Downstream DC/DC Converters", 10 VPWR (power) "VPWR Serves as the Unregulated Power Supply Input to the Chip (4.5 to 15V). If a 4.5V to 15V Supply Voltage Is Unavailable, Short VPWR to VDD33 and Power the Chip Directly from a 3.3V Supply. Bypass to GND with 0.1uF (See Datasheet)", 15 TSENSE0 (io) "External Temperature Current Output and Voltage Input for Channel 0. Maximum allowed capacitance is 1uF", 16 TSENSE1 (io) "External Temperature Current Output and Voltage Input for Channel 1. Maximum allowed capacitance is 1uF", 27 TSENSE2 (io) "External Temperature Current Output and Voltage Input for Channel 2. Maximum allowed capacitance is 1uF", 34 TSENSE3 (io) "External Temperature Current Output and Voltage Input for Channel 3. Maximum allowed capacitance is 1uF", 41 ISENSEP0 (in) "DC/DC Converter Differential (+) Output Current-0 Sensing Pin", 42 ISENSEM0 (in) "DC/DC Converter Differential (-) Output Current-0 Sensing Pin", 43 ISENSEP1 (in) "DC/DC Converter Differential (+) Output Current-1 Sensing Pin", 44 ISENSEM1 (in) "DC/DC Converter Differential (-) Output Current-1 Sensing Pin", 45 ISENSEP2 (in) "DC/DC Converter Differential (+) Output Current-2 Sensing Pin", 46 ISENSEM2 (in) "DC/DC Converter Differential (-) Output Current-2 Sensing Pin", 47 ISENSEP3 (in) "DC/DC Converter Differential (+) Output Current-3 Sensing Pin", 48 ISENSEM3 (in) "DC/DC Converter Differential (-) Output Current-3 Sensing Pin", 49 VSENSEP3 (in) "DC/DC Converter Differential (+) Output Voltage-3 Sensing Pin", 50 VSENSEM3 (in) "DC/DC Converter Differential (-) Output Voltage-3 Sensing Pin", 53 VDAC0 (hiz) "DAC0 Output", 54 VDAC1 (hiz) "DAC1 Output", 57 VDAC2 (hiz) "DAC2 Output", 58 VDAC3 (hiz) "DAC3 Output", 61 VSENSEP2 (in) "DC/DC Converter Differential (+) Output Voltage-2 Sensing Pin", 62 VSENSEM2 (in) "DC/DC Converter Differential (-) Output Voltage-2 Sensing Pin", 63 VSENSEP1 (in) "DC/DC Converter Differential (+) Output Voltage-1 Sensing Pin", 64 VSENSEM1 (in) "DC/DC Converter Differential (-) Output Voltage-1 Sensing Pin"
part B pins: 7 AUXFAULTB (out) "Auxillary Fault Output Pin. Output High Voltage Optionally Pulled-Up to 12V by 5uA. Can Be Configured to Pull Low When OV/UV/OC/UC Detected", 17 PWRGD (oc) "Power-Good Open Drain Output. Indicates When Selected Outputs Are Power Good. Can be Used as System Power-on Reset", 18 SHARE_CLK (io) "Bidirectional Clock Sharing Pin. Connect a 5.49kohm Pull-Up Resistor to VDD33", 22 CONTROL2 (in) "Control Pin 2 Input", 23 CONTROL3 (in) "Control Pin 3 Input", 24 WDI/RESETB (in) "Watchdog Timer Interrupt and Chip Reset Input. Connect a 10kohm Pull-Up Resistor to VDD33. Rising Edge Resets Watchdog Counter. Holding this Pin Low for More than tRESETB Resets the Chip", 25 FAULTB0 (io) "Open-Drain Output and Digital Input. Active Low Bidirectional Fault Indicator-0. Connect a 10kohm Pull-Up Resistor to VDD33", 26 FAULTB1 (io) "Open-Drain Output and Digital Input. Active Low Bidirectional Fault Indicator-1. Connect a 10kohm Pull-Up Resistor to VDD33", 28 WP (in) "Digital Input. Write-Protect Input Pin, Active High", 29 SDA (io) "PMBus Bidirectional Serial Data Pin", 30 SCL (in) "PMBus Serial Clock Input Pin (400kHz Maximum)", 31 ALERTB (oc) "Open-Drain Output. Generates an Interrupt Request in a Fault/Warning Situation", 32 CONTROL0 (in) "Control Pin 0 Input", 33 CONTROL1 (in) "Control Pin 1 Input", 35 ASEL0 (in) "Ternary Address Select Pin 0 Input. Connect to VDD33, GND or Float to Encode 1 of 3 Logic States", 36 ASEL1 (in) "Ternary Address Select Pin 1 Input. Connect to VDD33, GND or Float to Encode 1 of 3 Logic States", 38 REFP "Reference Voltage Output. Needs 0.1uF Decoupling Capacitor to REFM", 40 REFM "Reference Return Pin. Needs 0.1uF Decoupling Capacitor to REFP"
part C pins: 8 DNC "Do Not Connect to this Pin", 11 VDD33 (power) "If Shorted to VPWR, It Serves as 3.13 to 3.47V Supply Input Pin. Otherwise It Is a 3.3V Internally Regulated Voltage Output (Use 0.1uF Decoupling Capacitor to GND)", 12 VDD33 (power) "Input for Internal 2.5V Sub-Regulator. Short this Pin to Pin 11", 13 VDD25 (power) "2.5V Internally Regulated Voltage Output. Bypass to GND with a 0.1uF Capacitor", 14 VDD25 (power) "2.5V Supply Voltage Input. Short this Pin to Pin 13", 19 GND (power) "Chip Ground. Must Be Soldered to PCB", 20 GND (power) "Chip Ground. Must Be Soldered to PCB", 21 GND (power) "Chip Ground. Must Be Soldered to PCB", 37 GND (power) "Chip Ground. Must Be Soldered to PCB", 39 GND (power) "Chip Ground. Must Be Soldered to PCB", 51 NC "No Connect", 52 NC "No Connect", 55 NC "No Connect", 56 NC "No Connect", 59 NC "No Connect", 60 NC "No Connect", 65 EP (power) "Exposed Pad. Must Be Soldered to PCB"